# Altium footprint library HSBNE-Vend.PcbLib: 33 footprints (part 1 of 3)
Each footprint in its own frame and in the unit in brackets; x right, y up, seen from the top. Pads: shape width x height; smd on the part's side, far side on the other; paste and mask are expansions set on the pad; w line width, h text height; cw(c..) or ccw(c..) is an arc to the next point about the centre after c.
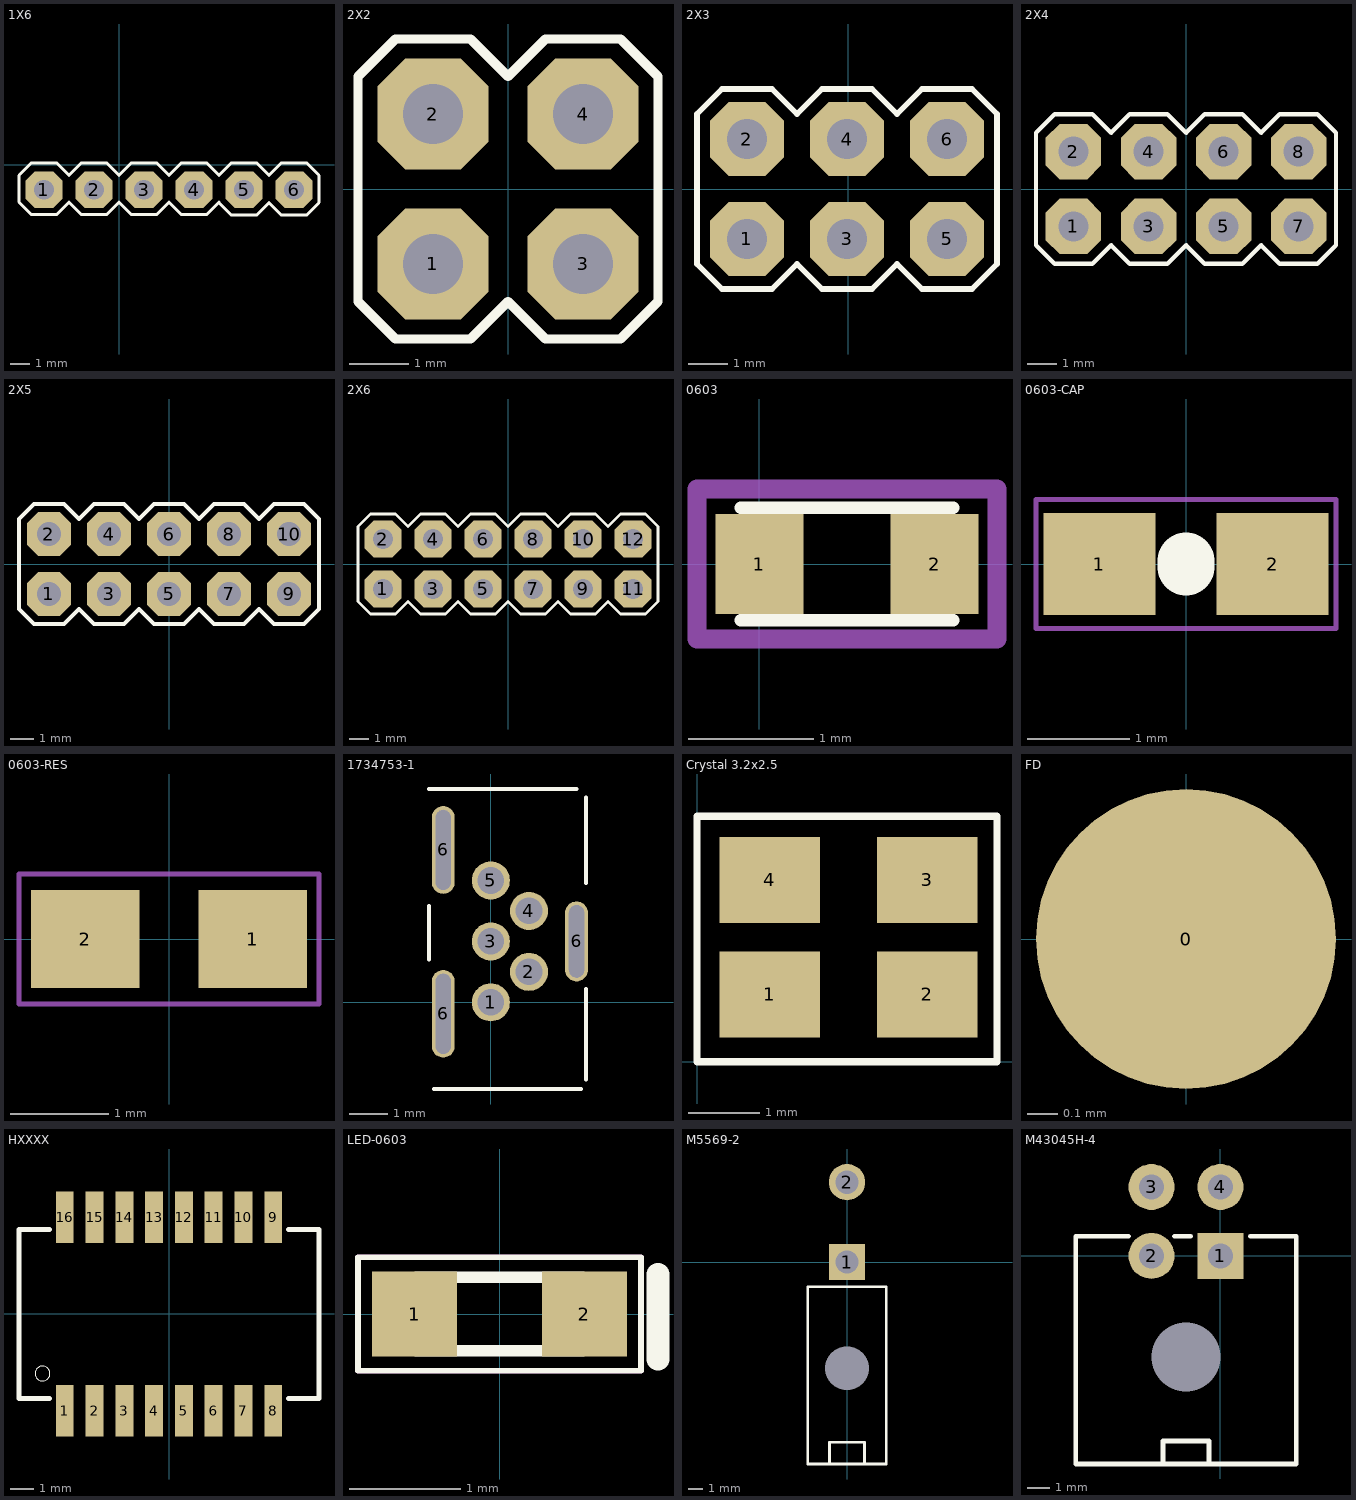
[diagram p0: the footprints below, top view; thin cyan lines are the x and y axes]

## 1X6 [mil]
pads (6):
  oct 74x74 hole 40: 1(-150,-50) 2(-50,-50) 3(50,-50) 4(150,-50) 5(250,-50) 6(350,-50)
Top Overlay:
  lines w6: 200,-76 225,-101 275,-101 300,-76 325,-101 375,-101 400,-76 400,-21 375,4 325,4 300,-21 275,4 225,4 200,-21 175,4 125,4 100,-21 75,4 25,4 0,-21 -25,4 -75,4 -100,-21 -125,4 -175,4 -200,-21 -200,-75 -175,-100 -125,-100 -100,-75 -75,-100 -25,-100 0,-75 25,-100 75,-100 100,-75 125,-100 175,-100 200,-75
3D body "Samtec-HMTSW-106-06-F-S-0.STEP": height 298.48, standoff -1.62, extent -200,-99.99 400,0.01

## 2X2 [mil]
pads (4):
  oct 74x74 hole 40: 1(-50,-50) 2(-50,50) 3(50,-50) 4(50,50)
Top Overlay:
  lines w6: -100,-75 -100,75 -75,100 -25,100 0,75 25,100 75,100 100,75 100,-75 75,-100 25,-100 0,-75 -25,-100 -75,-100 -100,-75

## 2X3 [mil]
pads (6):
  oct 74x74 hole 40: 1(-101.18,-50) 2(-101.18,50) 3(-1.18,-50) 4(-1.18,50) 5(98.82,-50) 6(98.82,50)
Top Overlay:
  lines w6: -151.18,-75 -151.18,75 -126.18,100 -76.18,100 -51.18,75 -26.18,100 23.82,100 48.82,75 73.82,100 123.82,100 148.82,75 148.82,-75 123.82,-100 73.82,-100 48.82,-75 23.82,-100 -26.18,-100 -51.18,-75 -76.18,-100 -126.18,-100 -151.18,-75
3D body "User Library-HEADER, 2X3, 2_54MM X 2_54MM PITCH, VERT, TH.STEP": height 330, standoff -150, extent -150,-100 150,100

## 2X4 [mil]
pads (8):
  oct 74x74 hole 40: 1(-150,-50) 2(-150,50) 3(-50,-50) 4(-50,50) 5(50,-50) 6(50,50) 7(150,-50) 8(150,50)
Top Overlay:
  lines w6: -200,-75 -175,-100 -125,-100 -100,-75 -75,-100 -25,-100 0,-75 25,-100 75,-100 100,-75 125,-100 175,-100 200,-75 200,75 175,100 125,100 100,75 75,100 25,100 0,75 -25,100 -75,100 -100,75 -125,100 -175,100 -200,75 -200,-75

## 2X5 [mil]
pads (10):
  oct 74x74 hole 40: 1(-200,-50) 2(-200,50) 3(-100,-50) 4(-100,50) 5(0,-50) 6(0,50) 7(100,-50) 8(100,50) 9(200,-50) 10(200,50)
Top Overlay:
  lines w6: -250,-75 -225,-100 -175,-100 -150,-75 -125,-100 -75,-100 -50,-75 -25,-100 25,-100 50,-75 75,-100 125,-100 150,-75 175,-100 225,-100 250,-75 250,75 225,100 175,100 150,75 125,100 75,100 50,75 25,100 -25,100 -50,75 -75,100 -125,100 -150,75 -175,100 -225,100 -250,75 -250,-75
3D body "7731312210lf.stp": height 396.73, standoff -128.86, extent -242.13,-95.16 242.12,95

## 2X6 [mil]
pads (12):
  oct 74x74 hole 40: 1(-250,-50) 2(-250,50) 3(-150,-50) 4(-150,50) 5(-50,-50) 6(-50,50) 7(50,-50) 8(50,50) 9(150,-50) 10(150,50) 11(250,-50) 12(250,50)
Top Overlay:
  lines w6: -300,-75 -300,75 -275,100 -225,100 -200,75 -175,100 -125,100 -100,75 -75,100 -25,100 0,75 25,100 75,100 100,75 125,100 175,100 200,75 225,100 275,100 300,75 300,-75 275,-100 225,-100 200,-75 175,-100 125,-100 100,-75 75,-100 25,-100 0,-75 -25,-100 -75,-100 -100,-75 -125,-100 -175,-100 -200,-75 -225,-100 -275,-100 -300,-75

## 0603 [mm]
height 0.8
pads (2):
  rect 0.7x0.8 smd paste+0 mask+0.1: 1(0,0) 2(1.4,0)
Top Overlay:
  lines w0.1: -0.15,-0.45 1.55,-0.45 ; -0.15,0.45 1.55,0.45
Mechanical 2:
  lines w0.15: -0.5,-0.6 1.9,-0.6 1.9,0.6 -0.5,0.6 -0.5,-0.6
3D body: height 0.53, standoff 0, extent -0.15,-0.45 1.55,0.45

## 0603-CAP [mm]
pads (2):
  rect 1.1x1 smd: 1(-0.85,0) 2(0.85,0)
Top Overlay:
  lines w0.559: 0,-0.03 0,0.03
Mechanical 13:
  lines w0.051: -1.473,-0.635 1.473,-0.635 1.473,0.635 -1.473,0.635 -1.473,-0.635

## 0603-RES [mm]
pads (2):
  rect 1.1x1 smd: 1(0.85,0) 2(-0.85,0)
Mechanical 13:
  lines w0.051: -1.524,-0.66 1.524,-0.66 1.524,0.66 -1.524,0.66 -1.524,-0.66

## 1734753-1 [mm] "CONN MINI USB RCPT RA TYPE B VERT"
height 3.93
pads (8):
  round 1 hole 0.7: 1(0,0) 2(1,0.8) 3(0,1.6) 4(1,2.4) 5(0,3.2)
  oval 0.6x2.3 hole 0.4 slot 2.1 at 90 deg: 6(-1.25,-0.3) 6(-1.25,4)
  oval 0.6x2.1 hole 0.4 slot 1.9 at 90 deg: 6(2.25,1.6)
Top Overlay:
  lines w0.1: -1.625,1.125 -1.625,2.525 ; -1.625,5.6 2.25,5.6 ; -1.5,-2.275 2.375,-2.275 ; 2.5,-2.025 2.5,0.35 ; 2.5,3.125 2.5,5.375

## Crystal 3.2x2.5 [mm]
pads (4):
  rect 1.4x1.2 smd: 1(1.016,0.94) 2(3.216,0.94) 3(3.216,2.54) 4(1.016,2.54)
Top Overlay:
  lines w0.1: 0,0 4.191,0 4.191,3.429 0,3.429 0,0
3D body "User Library-GeyerElectronics_KX6.STEP": height 0.56, standoff 0, extent 0.772,0.778 3.292,2.778

## FD [mm]
pads (1):
  round 1 smd paste-2 mask+0.5: 0(0,0)

## HXXXX [mm]
pads (16):
  rect 0.76x2.2 smd: 1(-4.445,-4.128) 2(-3.175,-4.128) 3(-1.905,-4.128) 4(-0.635,-4.128) 5(0.635,-4.128) 6(1.905,-4.128) 7(3.175,-4.128) 8(4.445,-4.128) 9(4.445,4.127) 10(3.175,4.127) 11(1.905,4.127) 12(0.635,4.127) 13(-0.635,4.127) 14(-1.905,4.127) 15(-3.175,4.127) 16(-4.445,4.127)
Top Overlay:
  circle w0.008: c-5.397,-2.54 r0.318
  lines w0.203: -5.1,-3.6 -6.4,-3.6 -6.4,3.6 -5.1,3.6 ; 5.1,-3.6 6.4,-3.6 6.4,3.6 5.1,3.6
3D body: height 6, standoff 0, extent -6.375,-4.275 6.375,4.125

## LED-0603 [mil]
pads (2):
  rect 30x30 smd: 1(-30,0) 2(30,0)
Top Overlay:
  rectangle: 15,-15 30,15
  rectangle: -30,-15 -15,15
  lines w4: -20,-13 20,-13 ; -20,13 20,13
  lines w8: 56,-16 56,14
Top Overlay keep-out:
  lines w2: -50,-20 -50,20 50,20 50,-20 -50,-20
3D body "SW3dPS-LED SMD0603.STEP": height 26.76, standoff 0.19, extent -33.17,-14.47 31.79,14.07

## M5569-2 [mm]
pads (3):
  rect 2.5x2.5 hole 1.6: 1(0,0)
  round 2.5 hole 1.6: 2(0,5.5)
  round 0 hole 3 unplated: A(0,-7.3)
Top Overlay:
  lines w0.2: -1.2,-13.9 -1.2,-12.4 1.2,-12.4 1.2,-13.9 ; -2.7,-13.9 -2.7,-1.7 2.7,-1.7 2.7,-13.9 -2.7,-13.9
3D body "039301020.stp": height 11.4, standoff -3.6, extent -2.72,-13.907 3.08,6.028

## M43045H-4 [mm]
height 1
pads (5):
  rect 2x2 hole 1.1: 1(0,0)
  round 2 hole 1.1: 2(-3,0) 3(-3,3) 4(0,3)
  round 0 hole 3 unplated: 5(-1.5,-4.4)
Top Overlay:
  lines w0.2: -4,0.85 -6.3,0.85 -6.3,-9.05 3.3,-9.05 3.3,0.85 1.3,0.85 ; -2.5,-9.05 -2.5,-8.05 -0.5,-8.05 -0.5,-9.05 ; -2,0.85 -1.3,0.85
3D body "430450400.stp": height 8.83, standoff -3.12, extent -6.6,-8.9 3.55,3.3